# EAGLE library part 10129383-906001ALF (library 10129383-906001ALF)
Headers & Wire Housings ECONOSTIK HEADER DR VT SMT 2X3 Source: Datasheet <https://componentsearchengine.com/Datasheets/1/10129383-906001ALF.pdf>
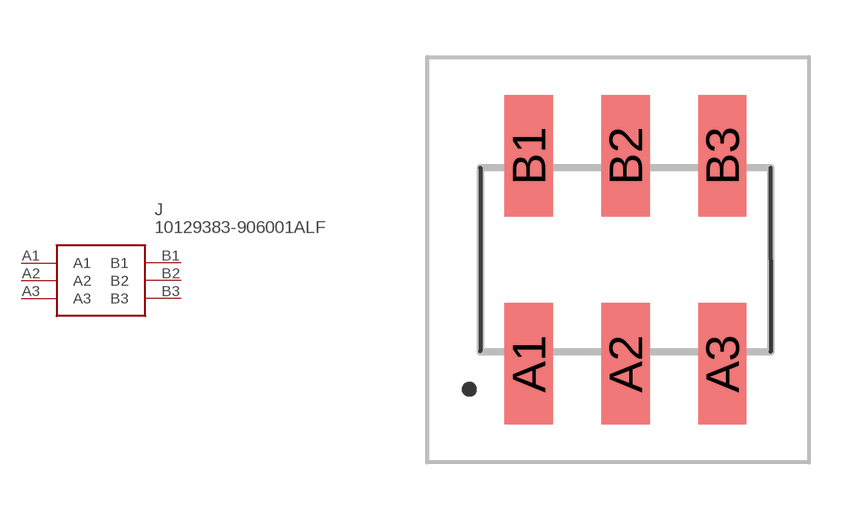
[diagram p0: symbol with the pads of 10129383906001ALF; footprint 10129383906001ALF]

Designator prefix J

## 10129383-906001ALF (Arrow_Part_Number: 10129383-906001ALF; Arrow_Price-Stock: https://www.arrow.com/en/products/10129383-906001alf/amphenol-fci; Description: Headers & Wire Housings ECONOSTIK HEADER DR VT SMT 2X3; Height: 8.58mm; Manufacturer_Name: Amphenol; Manufacturer_Part_Number: 10129383-906001ALF; Mouser_Part_Number: 649-1012938390601ALF; Mouser_Price-Stock: https://www.mouser.co.uk/ProductDetail/Amphenol-FCI/10129383-906001ALF/?qs=0lQeLiL1qyZsINMRDvT9Pw%3D%3D)  [10129383906001ALF]
A1  A1
A2  A2
A3  A3
B1  B1
B2  B2
B3  B3

## Footprint 10129383906001ALF (pad centres in mm)
10129383-906001ALF-3
smd 1.27 x 3.18: A1 -2.54,-2.73; A2 0,-2.73; A3 2.54,-2.73; B1 -2.54,2.73; B2 0,2.73; B3 2.54,2.73